# Altium footprint library PCB - CAPACITOR - CHIP - CAPC_1808.PCBLIB: 1 footprints
Each footprint in its own frame and in the unit in brackets; x right, y up, seen from the top. Pads: shape width x height; smd on the part's side, far side on the other; paste and mask are expansions set on the pad; w line width, h text height; cw(c..) or ccw(c..) is an arc to the next point about the centre after c.
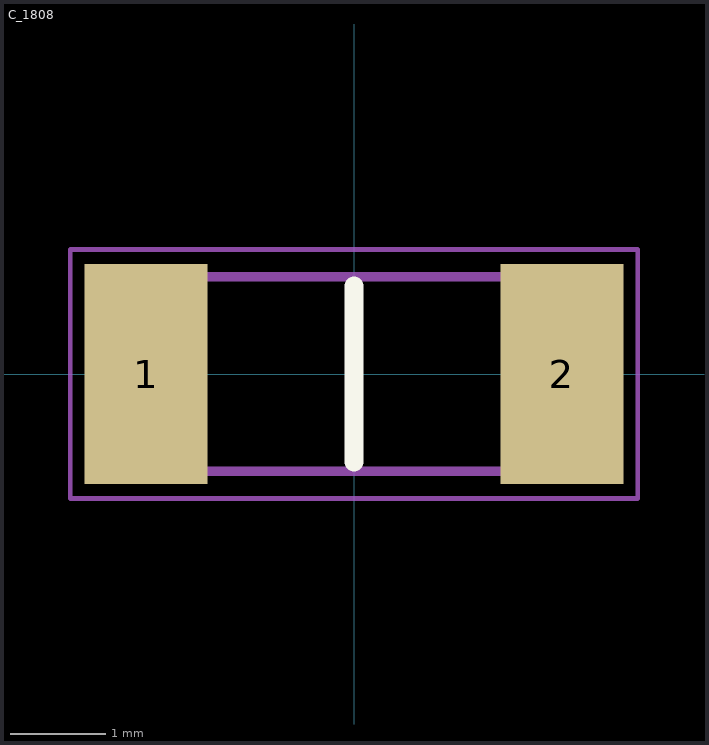
[diagram p0: the footprint, top view; thin cyan lines are the x and y axes]

## C_1808 [mm]
pads (2):
  rect 1.28x2.3 smd: 1(-2.17,0) 2(2.17,0)
Top Overlay:
  lines w0.2: 0,-0.915 0,0.915
Mechanical 13:
  lines w0.1: -2.35,-1.015 -2.35,1.015 2.35,1.015 2.35,-1.015 -2.35,-1.015
Mechanical 15:
  lines w0.05: -2.96,-1.3 -2.96,1.3 2.96,1.3 2.96,-1.3 -2.96,-1.3
3D body "302R29W152MV4E.stp": height 2.16, standoff 0, extent -2.35,-1.015 2.35,1.015